# EAGLE library part ATMEGA328P-MU (library Fuzzy)
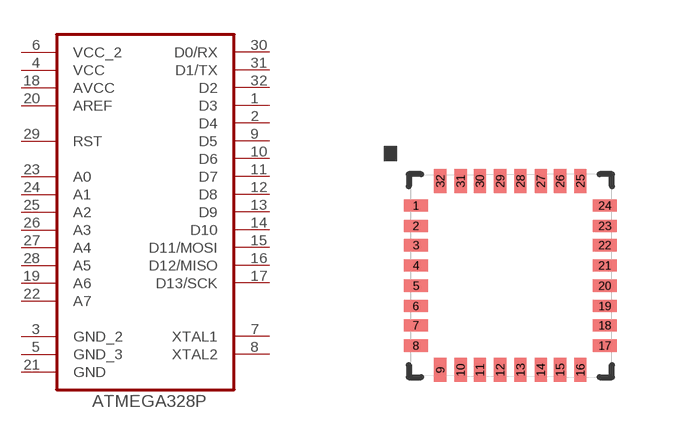
[diagram p0: symbol with the pads of QFN32; footprint QFN32]

Designator prefix -

## ATMEGA328P-MU  [QFN32]
1  D3
2  D4
3  GND_2  pas
4  VCC  pwr
5  GND_3  pas
6  VCC_2  pwr
7  XTAL1
8  XTAL2
9  D5
10  D6
11  D7
12  D8
13  D9
14  D10
15  D11/MOSI
16  D12/MISO
17  D13/SCK
18  AVCC  pwr
19  A6  in
20  AREF  in
21  GND  pas
22  A7  in
23  A0
24  A1
25  A2
26  A3
27  A4
28  A5
29  RST
30  D0/RX
31  D1/TX
32  D2

## Footprint QFN32 (pad centres in mm)
smd 0.6 x 0.305: 1 -2.364,1.753; 2 -2.364,1.245; 3 -2.364,0.762; 4 -2.364,0.254; 5 -2.364,-0.254; 6 -2.364,-0.762; 7 -2.364,-1.245; 8 -2.364,-1.753; 17 2.364,-1.753; 18 2.364,-1.245; 19 2.364,-0.762; 20 2.364,-0.254; 21 2.364,0.254; 22 2.364,0.762; 23 2.364,1.245; 24 2.364,1.753
smd 0.305 x 0.6: 9 -1.753,-2.364; 10 -1.245,-2.364; 11 -0.762,-2.364; 12 -0.254,-2.364; 13 0.254,-2.364; 14 0.762,-2.364; 15 1.245,-2.364; 16 1.753,-2.364; 25 1.753,2.364; 26 1.245,2.364; 27 0.762,2.364; 28 0.254,2.364; 29 -0.254,2.364; 30 -0.762,2.364; 31 -1.245,2.364; 32 -1.753,2.364